# Altium integrated library RADM Connectors.IntLib: 65 symbols
Pins are listed as number, name and electrical type; pins without a type are passive.

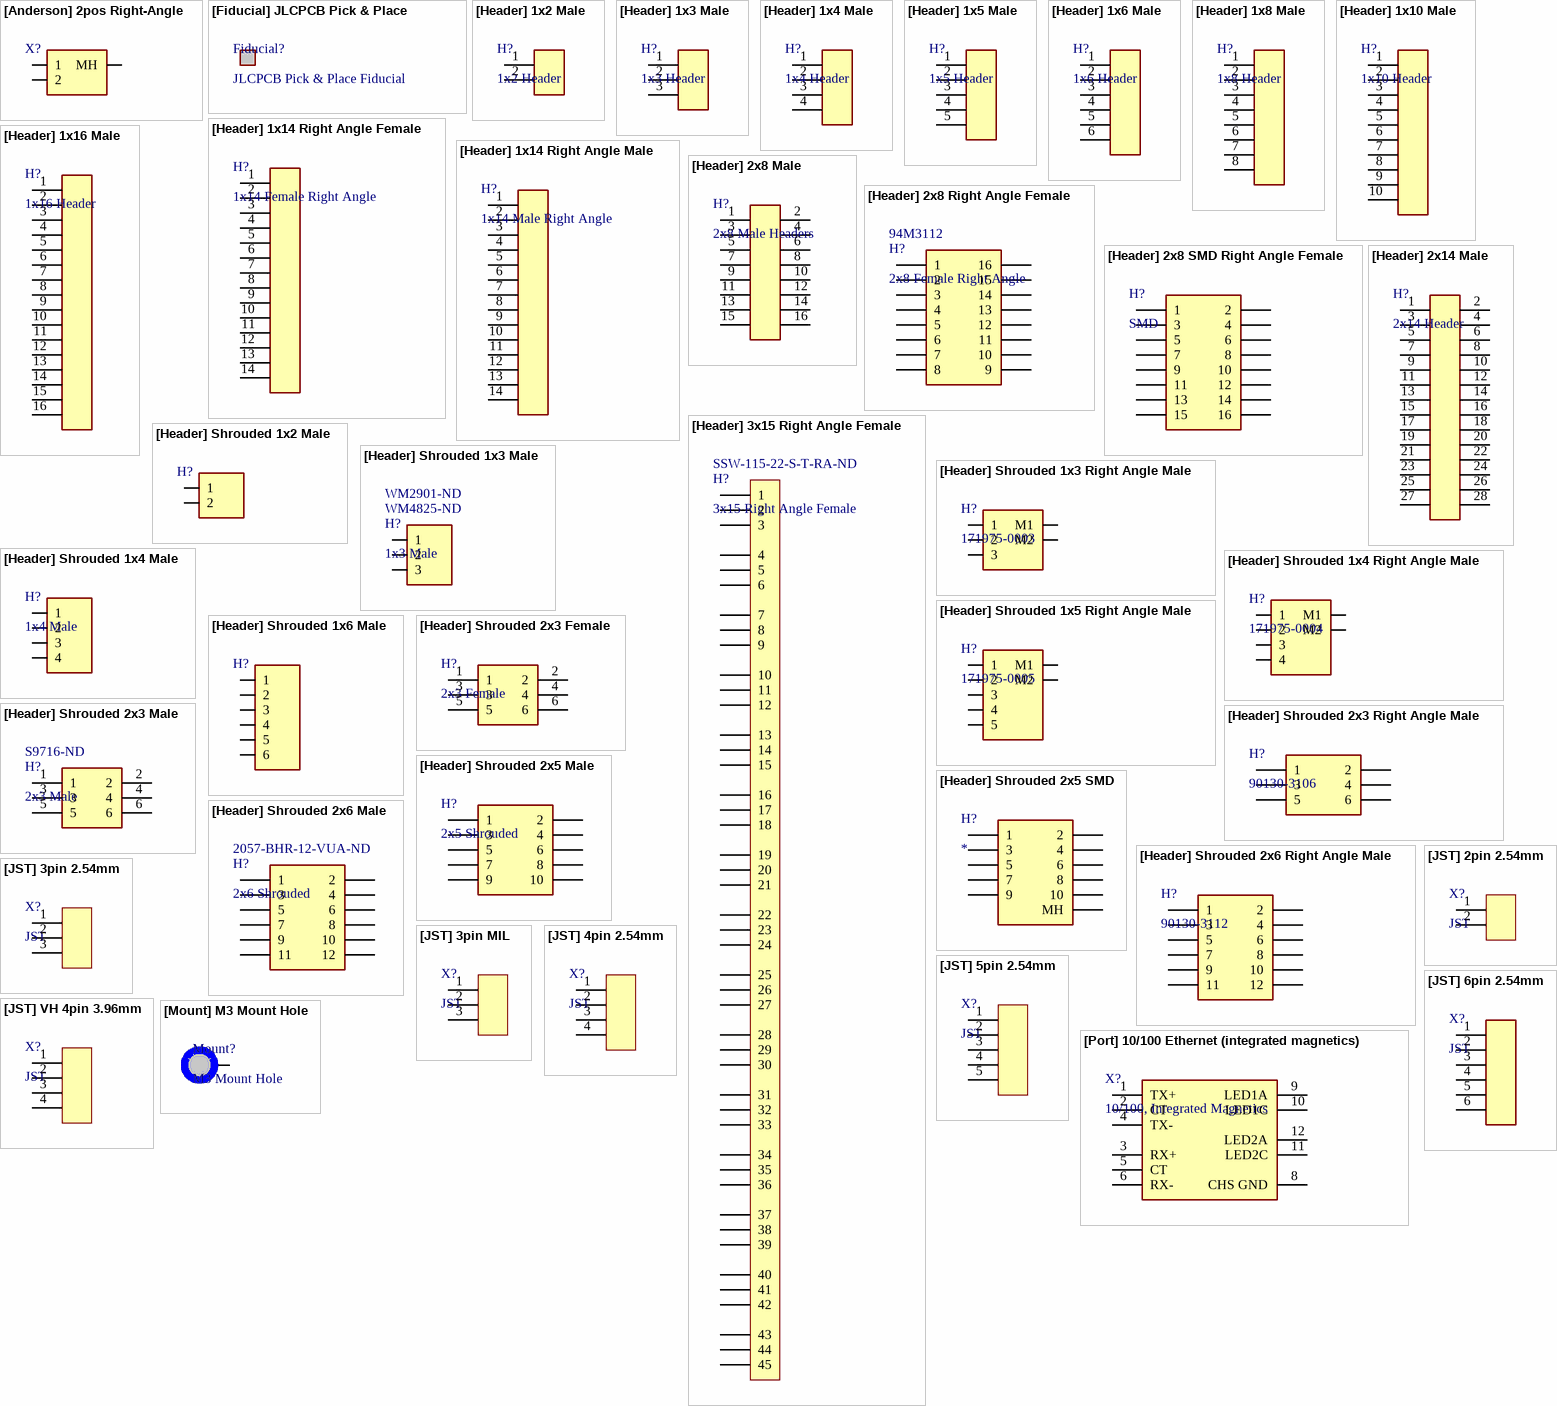
[diagram p0: symbols [Anderson] 2pos Right-Angle to [Port] 10/100 Ethernet (integrated magnetics)]

## [Anderson] 2pos Right-Angle
designator X?, comment Anderson 2pos Right-Angle  (value not drawn)
footprint [Anderson] 2pos Right-Angle 1327G17
pins: 1, 2, MH (power)

## [Fiducial] JLCPCB Pick & Place
designator Fiducial?, comment JLCPCB Pick & Place Fiducial  (no BOM)
footprint [Fiducial] JLCPCB Pick & Place

## [Header] 1x2 Male
designator H?, comment 1x2 Header
2.54mm pitch
footprint [Header] 1x2 Male
pins: 1, 2

## [Header] 1x3 Male
designator H?, comment 1x3 Header
2.54mm pitch
footprint [Header] 1x3 Male
pins: 1, 2, 3

## [Header] 1x4 Male
designator H?, comment 1x4 Header
2.54mm pitch
footprint [Header] 1x4 Male (2.54mm pitch)
pins: 1, 2, 3, 4

## [Header] 1x5 Male
designator H?, comment 1x5 Header
2.54mm pitch
footprint [Header] 1x5 Male
pins: 1, 2, 3, 4, 5

## [Header] 1x6 Male
designator H?, comment 1x6 Header
2.54mm pitch
footprint [Header] 1x6 Male
pins: 1, 2, 3, 4, 5, 6

## [Header] 1x8 Male
designator H?, comment 1x8 Header
2.54mm pitch
footprint [Header] 1x8 Male
pins: 1, 2, 3, 4, 5, 6, 7, 8

## [Header] 1x10 Male
designator H?, comment 1x10 Header
2.54mm pitch
footprint [Header] 1x10 Male
pins: 1, 2, 3, 4, 5, 6, 7, 8, 9, 10

## [Header] 1x14 Right Angle Female
designator H?, comment 1x14 Female Right Angle
2.54mm pitch
footprint [Header] 1x14 Right Angle Female
pins: 1, 2, 3, 4, 5, 6, 7, 8, 9, 10, 11, 12, 13, 14

## [Header] 1x14 Right Angle Male
designator H?, comment 1x14 Male Right Angle
2.54mm pitch
footprint [Header] 1x14 Right Angle Male
pins: 1, 2, 3, 4, 5, 6, 7, 8, 9, 10, 11, 12, 13, 14

## [Header] 1x16 Male
designator H?, comment 1x16 Header
2.54mm pitch
footprint [Header] 1x16 Male
pins: 1, 2, 3, 4, 5, 6, 7, 8, 9, 10, 11, 12, 13, 14, 15, 16

## [Header] 2x8 Male
designator H?, comment 2x8 Male Headers
2.54mm pitch
footprint [Header] 2x8 Male Headers
pins: 1, 2 1, 3, 4 3, 5, 6 5, 7, 8 7, 9, 10 9, 11, 12 11, 13, 14 13, 15, 16 15

## [Header] 2x8 Right Angle Female
designator H?, comment 2x8 Female Right Angle  Supplier Part Number 1: 94M3112
90152-2116; Supplier 1: Newark
footprint [Header] 2x8 Female Right Angle (90152-2116)
pins: 1, 2, 3, 4, 5, 6, 7, 8, 9, 10, 11, 12, 13, 14, 15, 16

## [Header] 2x8 SMD Right Angle Female
designator H?, comment SMD
Supplier 1: DigiKey; Supplier Part Number 1: 609-71609-308LF-ND
footprint [Header] 2x8 SMD Right Angle Female
pins: 1, 2, 3, 4, 5, 6, 7, 8, 9, 10, 11, 12, 13, 14, 15, 16

## [Header] 2x14 Male
designator H?, comment 2x14 Header
2.54mm pitch
footprint [Header] 2x14 Male (2.54mm pitch)
pins: 1, 2, 3, 4, 5, 6, 7, 8, 9, 10, 11, 12, 13, 14, 15, 16, 17, 18, 19, 20, 21, 22, 23, 24, 25, 26, 27, 28

## [Header] 3x15 Right Angle Female
designator H?, comment 3x15 Right Angle Female  Supplier Part Number 1: SSW-115-22-S-T-RA-ND
SSW-115-22-S-T-RA; Supplier 1: DigiKey
footprint [Header] 3x15 Right Angle Female (SSW-115-22-S-T-RA)
pins: 1, 2, 3, 4, 5, 6, 7, 8, 9, 10, 11, 12, 13, 14, 15, 16, 17, 18, 19, 20, 21, 22, 23, 24, 25, 26, 27, 28, 29, 30, 31, 32, 33, 34, 35, 36, 37, 38, 39, 40, 41, 42, 43, 44, 45

## [Header] Shrouded 1x2 Male
designator H?, comment 1x2 Male  (value not drawn)
0705430036 / Mates with 0050579402; Supplier 1: DigiKey; Supplier 2: DigiKey; Supplier Part Number 2: WM2900-ND; Supplier Part Number 1: WM4824-ND
footprint [Header] Shrouded 1x2 Male
pins: 1, 2

## [Header] Shrouded 1x3 Male
designator H?, comment 1x3 Male  Supplier Part Number 1: WM4825-ND  Supplier Part Number 2: WM2901-ND
070543-0037 / Mates with 005057-9403; Supplier 1: DigiKey; Supplier 2: DigiKey
footprint [Header] Shrouded 1x3 Male (070543-0037 / Mates with 005057-9403)
pins: 1, 2, 3

## [Header] Shrouded 1x3 Right Angle Male
designator H?, comment 171975-0003
171975-0003 / Mates with 005057-9403
footprint [Header] Shrouded 1x3 Right Angle Male (171975-0003 / Mates with 0050579403)
pins: 1, 2, 3, MH1 M1 (power), MH2 M2 (power)

## [Header] Shrouded 1x4 Male
designator H?, comment 1x4 Male
70543-0003 / Mates with 005057-9404; Supplier 1: Avnet; Supplier Part Number 1: 0705430003
footprint [Header] Shrouded 1x4 Male (70543-0003 / Mates with 0050579404)
pins: 1, 2, 3, 4

## [Header] Shrouded 1x4 Right Angle Male
designator H?, comment 171975-0004
171975-0004 / Mates with 0050579404
footprint [Header] Shrouded 1x4 Right Angle Male (171975-0004 / Mates with 0050579404)
pins: 1, 2, 3, 4, MH1 M1 (power), MH2 M2 (power)

## [Header] Shrouded 1x5 Right Angle Male
designator H?, comment 171975-0005
171975-0005 / Mates with 0050579405
footprint [Header] Shrouded 1x5 Right Angle Male (171975-0005 / Mates with 0050579405)
pins: 1, 2, 3, 4, 5, MH1 M1 (power), MH2 M2 (power)

## [Header] Shrouded 1x6 Male
designator H?  (value not drawn)
0705430005 / Mates with 0050579406; Supplier 1: DigiKey; Supplier 2: DigiKey; Supplier Part Number 1: WM4804-ND; Supplier Part Number 2: WM2904-ND
footprint [Header] Shrouded 1x6 Male
pins: 1, 2, 3, 4, 5, 6

## [Header] Shrouded 2x3 Female
designator H?, comment 2x3 Female
SFH11-NBPC-D03-ST-BK
footprint [Header] Shrouded 2x3 Female (SFH11-NBPC-D03-ST-BK)
pins: 1, 2, 3, 4, 5, 6

## [Header] Shrouded 2x3 Male
designator H?, comment 2x3 Male  Supplier Part Number 1: S9716-ND
SBH11-NBPC-D03-ST-BK; Supplier 1: DigiKey
footprint [Header] Shrouded 2x3 Male (SBH11-NBPC-D03-ST-BK)
pins: 1, 2, 3, 4, 5, 6

## [Header] Shrouded 2x3 Right Angle Male
designator H?, comment 90130-3106
90130-3106 / Mates with 90142-0006
footprint [Header] Shrouded 2x3 Right Angle Male (0901303106 / Mates with 0901420006)
pins: 1, 2, 3, 4, 5, 6

## [Header] Shrouded 2x5 Male
designator H?, comment 2x5 Shrouded
BHR-10-VUA; Supplier 1: DigiKey; Supplier Part Number 1: 2057-BHR-10-VUA-ND
footprint [Header] Shrouded 2x5 Male
pins: 1, 2, 3, 4, 5, 6, 7, 8, 9, 10

## [Header] Shrouded 2x5 SMD
designator H?
Supplier 1: DigiKey; Supplier Part Number 1: WM4227-ND
footprint [Header] Shrouded 2x5 SMD
pins: 1, 2, 3, 4, 5, 6, 7, 8, 9, 10, X MH

## [Header] Shrouded 2x6 Male
designator H?, comment 2x6 Shrouded  Supplier Part Number 1: 2057-BHR-12-VUA-ND
BHR-12-VUA; Supplier 1: DigiKey
footprint [Header] Shrouded 2x6 Male (BHR-12-VUA)
pins: 1, 2, 3, 4, 5, 6, 7, 8, 9, 10, 11, 12

## [Header] Shrouded 2x6 Right Angle Male
designator H?, comment 90130-3112
90130-3112 / Mates with 90143-0012; Supplier 1: DigiKey; Supplier 2: DigiKey; Supplier Part Number 2: 23-0901430012-ND; Supplier Part Number 1: WM8264-ND
footprint [Header] Shrouded 2x6 Right Angle Male (90130-3112 / Mates with 90143-0012)
pins: 1, 2, 3, 4, 5, 6, 7, 8, 9, 10, 11, 12

## [JST] 2pin 2.54mm
designator X?, comment JST
2.54mm pitch
footprint [JST] 2PIN 2.54mm
pins: 1, 2

## [JST] 3pin 2.54mm
designator X?, comment JST
2.54mm pitch
footprint [JST] 3PIN 2.54mm
pins: 1, 2, 3

## [JST] 3pin MIL
designator X?, comment JST
2.54mm pitch
footprint [JST] 3pin MIL
pins: 1, 2, 3

## [JST] 4pin 2.54mm
designator X?, comment JST
2.54mm pitch
footprint [JST] 4PIN 2.54mm
pins: 1, 2, 3, 4

## [JST] 5pin 2.54mm
designator X?, comment JST
2.54mm pitch
footprint [JST] 5pin 2.54mm
pins: 1, 2, 3, 4, 5

## [JST] 6pin 2.54mm
designator X?, comment JST
2.54mm pitch
footprint [JST] 6pin 2.54mm (2.54mm pitch)
pins: 1, 2, 3, 4, 5, 6

## [JST] VH 4pin 3.96mm
designator X?, comment JST
3.95mm pitch
footprint [JST] VH 4pin 3.96mm
pins: 1, 2, 3, 4

## [Mount] M3 Mount Hole
designator Mount?, comment M3 Mount Hole  (no BOM)
Place at least 4.5mm from board edge. Plated.
footprint [Mount] M3 Mount Hole (Place at least 4.5mm from board edge. Plated.)
pins: 1 (power)

## [Port] 10/100 Ethernet (integrated magnetics)
designator X?, comment 10/100, Integrated Magnetics
J0011D01BNL
footprint [Port] 10/100 Ethernet (integrated magnetics) (J0011D01BNL)
pins: 1 TX+, 2 CT, 3 RX+, 4 TX-, 5 CT, 6 RX-, 8 CHS GND, 9 LED1A, 10 LED1C, 11 LED2C, 12 LED2A

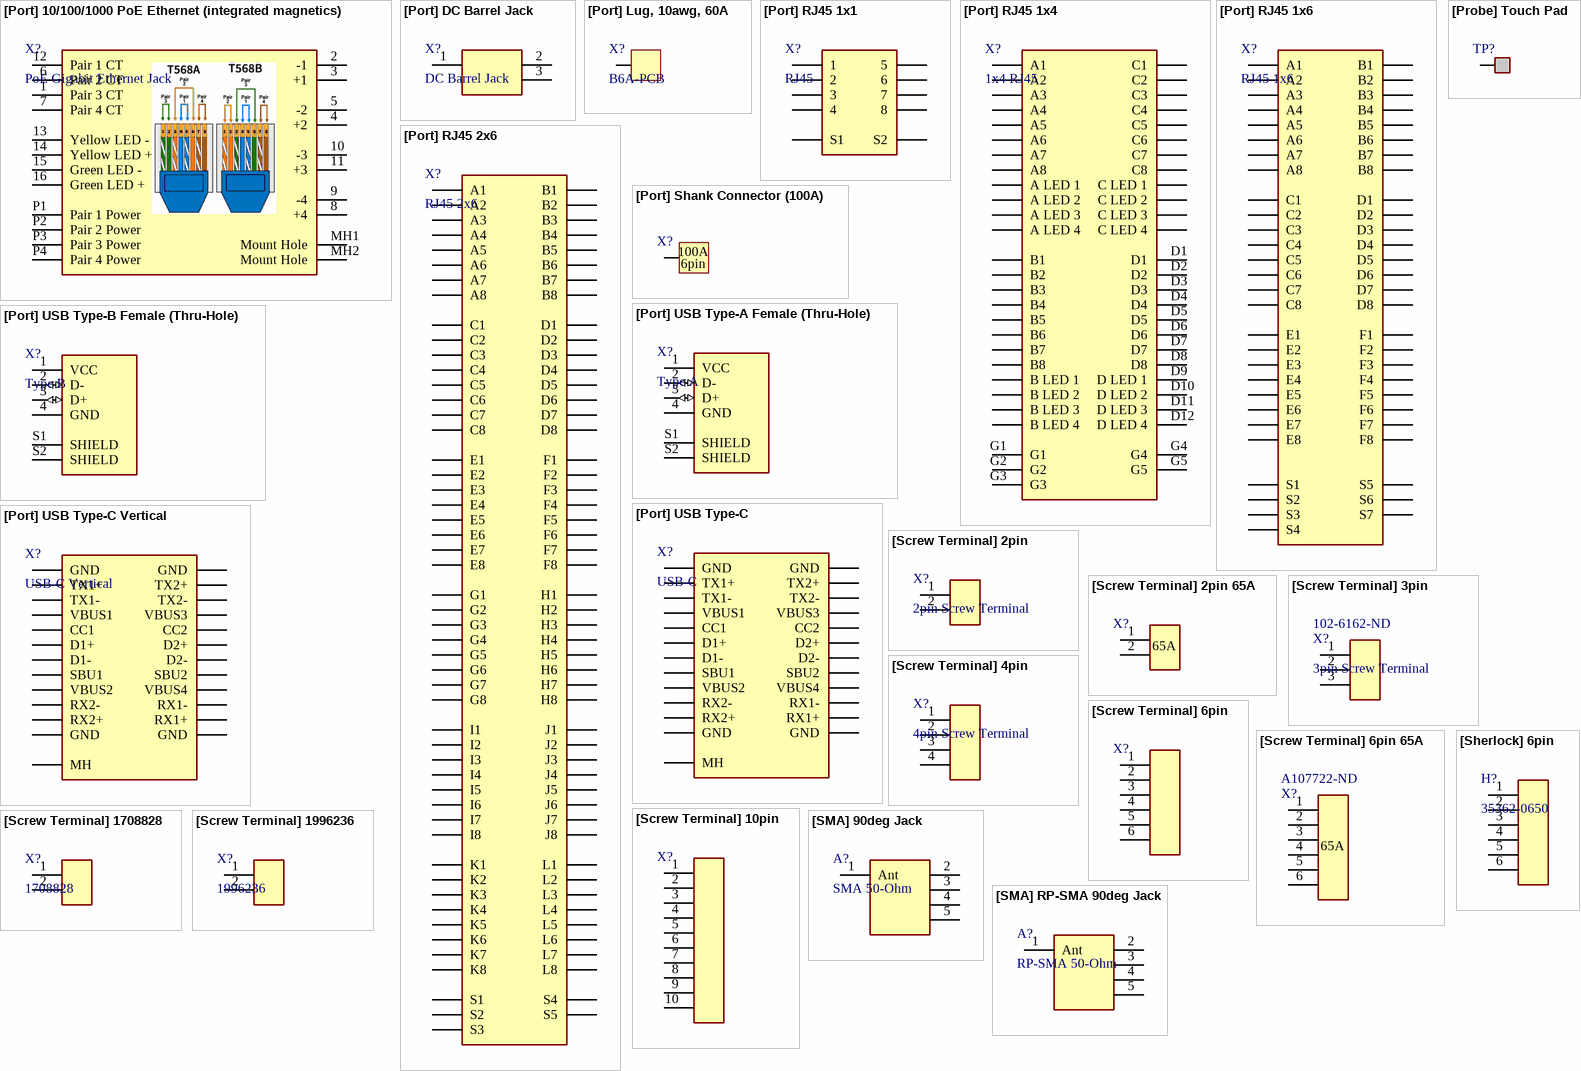
[diagram p1: symbols [Port] 10/100/1000 PoE Ethernet (integrated magnetics) to [SMA] RP-SMA 90deg Jack]

## [Port] 10/100/1000 PoE Ethernet (integrated magnetics)
designator X?, comment PoE Gigabit Ethernet Jack
85789-1006; Mouser Part #: 538-85789-1006
footprint [Port] 10/100/1000 PoE Ethernet (integrated magnetics)
pins: 1 Pair 3 CT, 2 -1, 3 +1, 4 +2, 5 -2, 6 Pair 2 CT, 7 Pair 4 CT, 8 +4, 9 -4, 10 -3, 11 +3, 12 Pair 1 CT, 13 Yellow LED -, 14 Yellow LED +, 15 Green LED -, 16 Green LED +, MH1 Mount Hole, MH2 Mount Hole, P1 Pair 1 Power, P2 Pair 2 Power, P3 Pair 3 Power, P4 Pair 4 Power

## [Port] DC Barrel Jack
designator X?, comment DC Barrel Jack
Pin 1: Pin / Pin2/3: Barrel; Supplier 1: DigiKey; Supplier Part Number 1: CP-102A-ND
footprint [Port] DC Barrel Jack
pins: 1 Pin, 2 Barrel, 3 Barrel

## [Port] Lug, 10awg, 60A
designator X?, comment B6A-PCB
https://lugsdirect.com/B6A-PCB.htm
footprint [Port] Lug, 10awg, 60A
pins: 1 4 (power)

## [Port] RJ45 1x1
designator X?, comment RJ45
1-1734580-1
footprint [Port] RJ45 1x1 (1-1734580-1)
pins: 1, 2, 3, 4, 5, 6, 7, 8, S1, S2

## [Port] RJ45 1x4
designator X?, comment 1x4 RJ45
E5J88-032-01-L
footprint [Port] RJ45 1x4 (E5J88-032-01-L)
pins: A1, A2, A3, A4, A5, A6, A7, A8, A9 A LED 1, A10 A LED 2, A11 A LED 3, A12 A LED 4, B1, B2, B3, B4, B5, B6, B7, B8, B9 B LED 1, B10 B LED 2, B11 B LED 3, B12 B LED 4, C1, C2, C3, C4, C5, C6, C7, C8, C9 C LED 1, C10 C LED 2, C11 C LED 3, C12 C LED 4, D1, D2, D3, D4, D5, D6, D7, D8, D9 D LED 1, D10 D LED 2, D11 D LED 3, D12 D LED 4, G1, G2, G3, G4, G5

## [Port] RJ45 1x6
designator X?, comment RJ45 1x6
0432238164
footprint [Port] RJ45 1x6 (0432238164)
pins: A1, A2, A3, A4, A5, A6, A7, A8, B1, B2, B3, B4, B5, B6, B7, B8, C1, C2, C3, C4, C5, C6, C7, C8, D1, D2, D3, D4, D5, D6, D7, D8, E1, E2, E3, E4, E5, E6, E7, E8, F1, F2, F3, F4, F5, F6, F7, F8, S1, S2, S3, S4, S5, S6, S7

## [Port] RJ45 2x6
designator X?, comment RJ45 2x6
SS73100-046F
footprint [Port] RJ45 2x6
pins: A1, A2, A3, A4, A5, A6, A7, A8, B1, B2, B3, B4, B5, B6, B7, B8, C1, C2, C3, C4, C5, C6, C7, C8, D1, D2, D3, D4, D5, D6, D7, D8, E1, E2, E3, E4, E5, E6, E7, E8, F1, F2, F3, F4, F5, F6, F7, F8, G1, G2, G3, G4, G5, G6, G7, G8, H1, H2, H3, H4, H5, H6, H7, H8, I1, I2, I3, I4, I5, I6, I7, I8, J1, J2, J3, J4, J5, J6, J7, J8, K1, K2, K3, K4, K5, K6, K7, K8, L1, L2, L3, L4, L5, L6, L7, L8, S1, S2, S3, S4, S5

## [Port] Shank Connector (100A)
designator X?, comment 7461057  (value not drawn)
7461057, internal thread; Supplier 1: DigiKey; Supplier Part Number 1: 732-7461057-ND
footprint [Port] Shank Connector (100A)
pins: 1 4 (power)
text: 100A; 6pin

## [Port] USB Type-A Female (Thru-Hole)
designator X?, comment Type A
footprint [Port] USB Type-A Female
pins: 1 VCC (power), 2 D- (io), 3 D+ (io), 4 GND (power), S1 SHIELD, S2 SHIELD

## [Port] USB Type-B Female (Thru-Hole)
designator X?, comment Type B
USB-B-S-F-B-TH
footprint [Port] USB Type-B Thru-Hole
pins: 1 VCC (power), 2 D- (io), 3 D+ (io), 4 GND (power), S1 SHIELD, S2 SHIELD

## [Port] USB Type-C
designator X?, comment USB-C
Supplier 1: DigiKey; Supplier Part Number 1: 670-3104-1-ND
footprint [Port] USB-C
pins: A1 GND, A2 TX1+, A3 TX1-, A4 VBUS1, A5 CC1, A6 D1+, A7 D1-, A8 SBU1, A9 VBUS2, A10 RX2-, A11 RX2+, A12 GND, B1 GND, B2 TX2+, B3 TX2-, B4 VBUS3, B5 CC2, B6 D2+, B7 D2-, B8 SBU2, B9 VBUS4, B10 RX1-, B11 RX1+, B12 GND, MH

## [Port] USB Type-C Vertical
designator X?, comment USB-C Vertical
Supplier 1: DigiKey; Supplier Part Number 1: 277-1332646CT-ND
footprint [Port] USB-C Vertical
pins: A1 GND, A2 TX1+, A3 TX1-, A4 VBUS1, A5 CC1, A6 D1+, A7 D1-, A8 SBU1, A9 VBUS2, A10 RX2-, A11 RX2+, A12 GND, B1 GND, B2 TX2+, B3 TX2-, B4 VBUS3, B5 CC2, B6 D2+, B7 D2-, B8 SBU2, B9 VBUS4, B10 RX1-, B11 RX1+, B12 GND, MH

## [Probe] Touch Pad
designator TP?, comment Probe Pad  (value not drawn)  (no BOM)
footprint [Probe] Touch Pad
pins: 1

## [Screw Terminal] 2pin
designator X?, comment 2pin Screw Terminal
Supplier 1: DigiKey; Supplier Part Number 1: 102-6145-ND
footprint [Screw Terminal] 2pin 5mm
pins: 1 (power), 2 (power)

## [Screw Terminal] 2pin 65A
designator X?  (value not drawn)
Supplier 1: DigiKey; Supplier Part Number 1: A107722-ND
footprint [Screw Terminal] 2pin 65A
pins: 1, 2
text: 65A

## [Screw Terminal] 3pin
designator X?, comment 3pin Screw Terminal  Supplier Part Number 1: 102-6162-ND
Supplier 1: DigiKey
footprint [Screw Terminal] 3pin 5mm
pins: 1 (power), 2 (power), 3 (power)

## [Screw Terminal] 4pin
designator X?, comment 4pin Screw Terminal
Supplier 1: DigiKey; Supplier Part Number 1: 102-6147-ND
footprint [Screw Terminal] 4pin 5mm
pins: 1 (power), 2 (power), 3 (power), 4 (power)

## [Screw Terminal] 6pin
designator X?  (value not drawn)
x3; Supplier 1: DigiKey; Supplier Part Number 1: 102-6145-ND
footprint [Screw Terminal] 6pin
pins: 1 (power), 2 (power), 3 (power), 4 (power), 5 (power), 6 (power)

## [Screw Terminal] 6pin 65A
designator X?  Supplier Part Number 1: A107722-ND  (hidden comment: *)
x3; Supplier 1: DigiKey
footprint [Screw Terminal] 6pin 65A
pins: 1, 2, 3, 4, 5 (power), 6 (power)
text: 65A

## [Screw Terminal] 10pin
designator X?  (value not drawn)
x5; Supplier 1: DigiKey; Supplier Part Number 1: 102-6145-ND
footprint [Screw Terminal] 10pin
pins: 1 (power), 2 (power), 3 (power), 4 (power), 5 (power), 6 (power), 7 (power), 8 (power), 9 (power), 10 (power)

## [Screw Terminal] 1708828
designator X?, comment 1708828
Mouser Part #: 651-1708828
footprint [Screw Terminal] 1708828
pins: 1, 2

## [Screw Terminal] 1996236
designator X?, comment 1996236
Mouser Part #: 651-1996236
footprint [Screw Terminal] 1996236
pins: 1, 2

## [Sherlock] 6pin
designator H?, comment 35362-0650
2.00mm pitch
footprint [Sherlock] 6pin (2.00mm pitch)
pins: 1, 2, 3, 4, 5, 6

## [SMA] 90deg Jack
designator A?, comment SMA 50-Ohm
SMA-J-P-H-RA-TH1; Supplier 1: DigiKey; Supplier Part Number 1: SAM8856-ND
footprint [SMA] 90deg Jack (SMA-J-P-H-RA-TH1)
pins: 1 Ant, 2, 3, 4, 5

## [SMA] RP-SMA 90deg Jack
designator A?, comment RP-SMA 50-Ohm
PCB.RPSMAFRA.HT; Supplier 1: DigiKey; Supplier Part Number 1: 931-1360-ND
footprint [SMA] RP-SMA 90deg Jack
pins: 1 Ant, 2, 3, 4, 5